# EAGLE library part IR2125 (library Kicker)
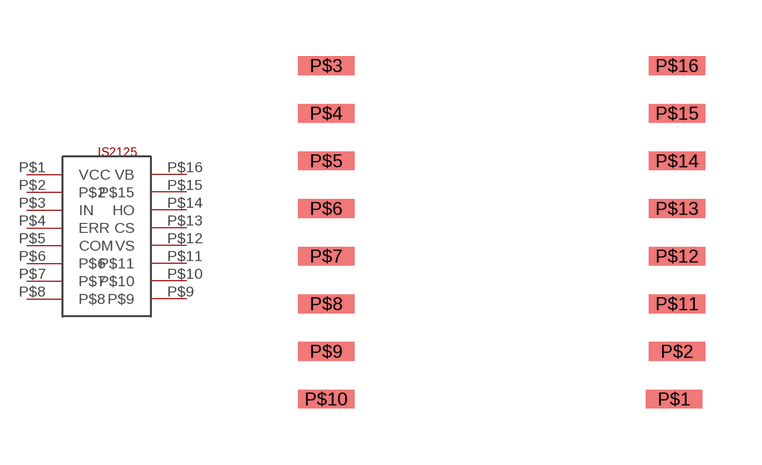
[diagram p1: symbol with the pads of 16SM; footprint 16SM]

Designator prefix -

## IR2125  [16SM]
P$1  VCC
P$2  P$2
P$3  IN
P$4  ERR
P$5  COM
P$6  P$6
P$7  P$7
P$8  P$8
P$9  P$9
P$10  P$10
P$11  P$11
P$12  VS
P$13  CS
P$14  HO
P$15  P$15
P$16  VB

## Footprint 16SM (pad centres in mm)
smd 1.5 x 0.5: P$1 10.54,0; P$2 10.62,1.27; P$3 1.27,8.89; P$4 1.27,7.62; P$5 1.27,6.35; P$6 1.27,5.08; P$7 1.27,3.81; P$8 1.27,2.54; P$9 1.27,1.27; P$10 1.27,0; P$11 10.62,2.54; P$12 10.62,3.81; P$13 10.62,5.08; P$14 10.62,6.35; P$15 10.62,7.62; P$16 10.62,8.89